# Altium footprint library 4.电磁巡线运算PCB封装库.PcbLib: 8 footprints
Each footprint in its own frame and in the unit in brackets; x right, y up, seen from the top. Pads: shape width x height; smd on the part's side, far side on the other; paste and mask are expansions set on the pad; w line width, h text height; cw(c..) or ccw(c..) is an arc to the next point about the centre after c.
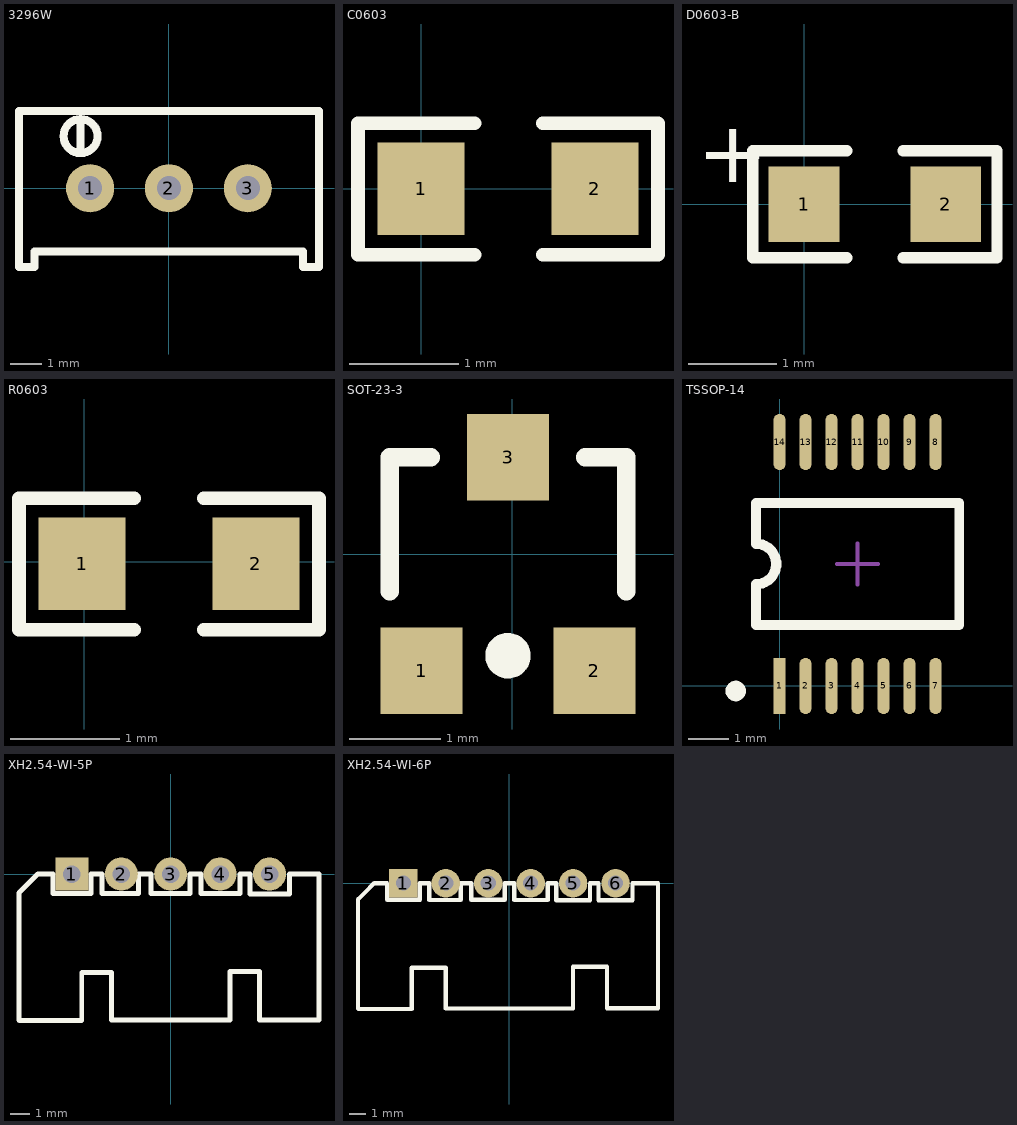
[diagram p0: the footprints below, top view; thin cyan lines are the x and y axes]

## 3296W [mil]
pads (3):
  round 60 hole 30 paste+0 mask+2: 1(-98.42,0) 2(0.01,0) 3(98.42,0)
Top Overlay:
  lines w10: -110.39,50 -110.39,65 ; -110.4,86.2 ccw(c-110.19,64.98) -109.99,86.2 ; 187.01,96.46 -187.01,96.46 -187.01,-96.46 -187.01,-98.42 -167.52,-98.42 -167.52,-78.74 167.52,-78.74 167.52,-98.42 187.22,-98.42 187.22,-96.46 187.22,96.46 ; -110.39,65 -110.39,80 -110.39,65
3D body "User Library-3296W.STEP": height 454.72, standoff -62.99, extent -188.13,-93.08 187.07,95.9

## C0603 [mm]
pads (2):
  rect 0.8x0.85 smd: 1(0,0) 2(1.6,0)
Top Overlay:
  lines w0.127: -0.58,-0.606 -0.58,0.603 ; -0.57,-0.606 0.491,-0.606 ; -0.57,0.603 0.491,0.603 ; 1.119,-0.606 2.18,-0.606 2.18,0.603 1.119,0.603
3D body "User Library-0603 SMD Capacitor.STEP": height 0.3, standoff 0, extent 0,-0.4 1.6,0.4

## D0603-B [mm]
pads (2):
  rect 0.8x0.85 smd: 1(0,0) 2(1.6,0)
Top Overlay:
  lines w0.127: 0.481,-0.606 -0.58,-0.606 -0.58,0.603 0.481,0.603 ; 1.119,-0.606 2.18,-0.606 2.18,0.603 1.119,0.603
  text "+" at -1.21,0.25 h0.7
3D body "LED SMD0603_B.STEP": height 0.68, standoff 0, extent -0.055,-0.365 1.595,0.36

## R0603 [mm]
pads (2):
  rect 0.8x0.85 smd: 1(-0.02,-0.02) 2(1.58,-0.02)
Top Overlay:
  lines w0.127: 0.461,-0.626 -0.6,-0.626 -0.6,0.583 0.461,0.583 ; 1.099,-0.626 2.16,-0.626 2.16,0.583 1.099,0.583
3D body "R0603.STEP": height 0.45, standoff 0, extent -0.02,-0.42 1.58,0.38

## SOT-23-3 [mm]
pads (3):
  rect 0.9x0.95 smd: 1(-0.999,-1.284) 2(0.902,-1.284) 3(-0.048,1.066)
Top Overlay:
  circle w0.25: c-0.049,-1.118 r0.125
  lines w0.2: -1.348,-0.409 -1.348,1.066 -0.898,1.066 ; 0.801,1.066 1.252,1.066 1.252,-0.409
3D body "SOT-23-3.STEP": height 1.2, standoff 0, extent -1.501,-1.476 1.399,1.324

## TSSOP-14 [mm]
pads (14):
  rect 0.3x1.4 smd: 1(0,0)
  oval 0.3x1.4 smd: 2(0.65,0) 3(1.3,0) 4(1.95,0) 5(2.6,0) 6(3.25,0) 7(3.9,0) 8(3.9,6.1) 9(3.25,6.1) 10(2.6,6.1) 11(1.95,6.1) 12(1.3,6.1) 13(0.65,6.1) 14(0,6.1)
Top Overlay:
  circle w0.254: c-1.098,-0.125 r0.13
  lines w0.24: -0.59,2.542 -0.59,1.526 4.49,1.526 4.49,4.574 -0.59,4.574 -0.59,3.558
  lines w0.254: -0.59,2.542 ccw(c-0.59,3.05) -0.59,3.558
Mechanical 15:
  lines w0.1: 1.442,3.05 2.458,3.05 ; 1.95,2.542 1.95,3.558
3D body "TSSOP14.STEP": height 1.03, standoff -0.02, extent -0.55,-0.153 4.45,6.253

## XH2.54-WI-5P [mm] "接插件，5P"
pads (5):
  rect 1.7x1.7 hole 0.9: 1(-5.08,0)
  round 1.7 hole 0.9: 2(-2.54,0) 3(0,0) 4(2.54,0) 5(5.08,0)
Top Overlay:
  lines w0.254: -1.646,0 -1.646,-0.988 -1.66,-1.002 -3.526,-1.002 -3.526,0 -4.098,0 -4.098,-0.982 -4.084,-0.996 -6.04,-0.996 -6.054,-0.982 -6.054,0 -6.83,0 -7.412,-0.582 -7.796,-0.966 -7.796,-7.502 -7.77,-7.528 -4.572,-7.528 -4.572,-5.058 -3.048,-5.058 -3.048,-7.502 3.048,-7.502 3.048,-5.006 4.572,-5.006 4.572,-7.49 7.62,-7.49 7.62,0 6.096,0 6.096,-1.016 4.064,-1.016 4.064,0 3.556,0 3.556,-1.002 1.552,-1.002 1.552,0 ; -1.634,0 -1.036,0 ; -1.022,-0.996 -1.022,0 ; -1.002,-0.996 0.986,-0.996 0.992,-0.99 0.992,0 1.538,0
3D body "XH2_54-5P_H.STEP": height 2.89, standoff -6.21, extent -7.58,-7.7 7.58,0

## XH2.54-WI-6P [mm] "接插件，6P"
pads (6):
  rect 1.7x1.7 hole 0.9: 1(-6.35,0)
  round 1.7 hole 0.9: 2(-3.81,0) 3(-1.27,0) 4(1.27,0) 5(3.81,0) 6(6.35,0)
Top Overlay:
  lines w0.254: -2.916,0 -2.916,-0.988 -2.93,-1.002 -4.796,-1.002 -4.796,0 -5.368,0 -5.368,-0.982 -5.354,-0.996 -7.31,-0.996 -7.324,-0.982 -7.324,0 -8.1,0 -8.682,-0.582 -9.066,-0.966 -9.066,-7.502 -9.04,-7.528 -5.842,-7.528 -5.842,-5.058 -3.81,-5.058 -3.81,-7.502 3.81,-7.502 3.81,-5.006 5.842,-5.006 5.842,-7.49 8.89,-7.49 8.89,0 7.366,0 7.366,-1.016 5.334,-1.016 5.334,0 4.826,0 4.826,-1.016 2.794,-1.016 2.794,0 2.286,0 2.286,-1.002 0.282,-1.002 0.282,0 ; -2.904,0 -2.306,0 ; -2.292,-0.996 -2.292,0 ; -2.272,-0.996 -0.284,-0.996 -0.278,-0.99 -0.278,0 0.268,0
3D body "XH2_54-6P_H.STEP": height 2.89, standoff -6.21, extent -8.855,-7.446 8.845,0.254